# Altium footprint library PCB - INDUCTOR - RF - Murata LQW03 0201.PCBLIB: 1 footprints
Each footprint in its own frame and in the unit in brackets; x right, y up, seen from the top. Pads: shape width x height; smd on the part's side, far side on the other; paste and mask are expansions set on the pad; w line width, h text height; cw(c..) or ccw(c..) is an arc to the next point about the centre after c.
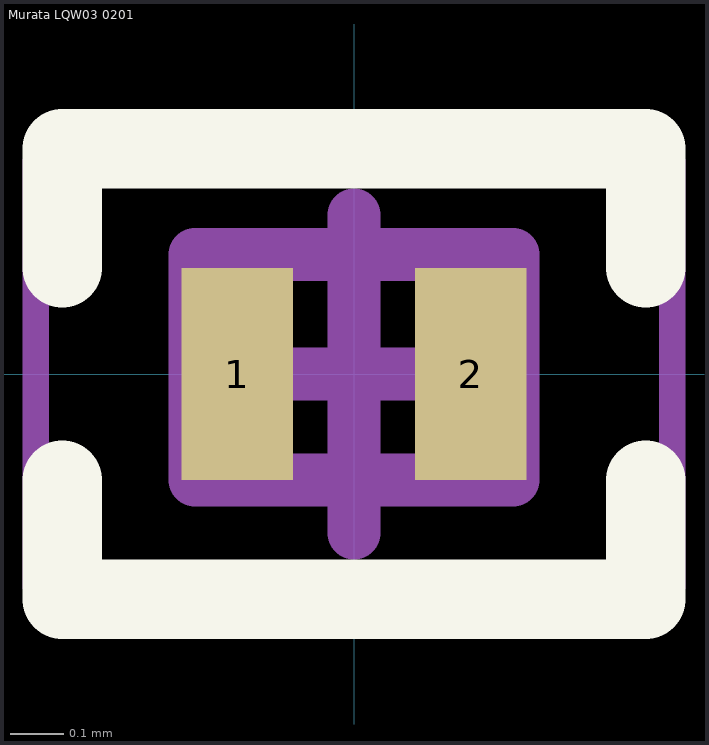
[diagram p0: the footprint, top view; thin cyan lines are the x and y axes]

## Murata LQW03 0201 [mm] "Chip Inductor, 2-Leads, Body 0.60x0.40mm"
height 0.45
pads (2):
  rect 0.21x0.4 smd: 1(-0.22,0) 2(0.22,0)
Top Overlay:
  lines w0.15: -0.55,-0.2 -0.55,-0.425 0.55,-0.425 0.55,-0.2 ; -0.55,0.2 -0.55,0.425 0.55,0.425 0.55,0.2
Mechanical 13:
  lines w0.1: -0.3,-0.2 0.3,-0.2 0.3,0.225 -0.3,0.225 -0.3,-0.2
Mechanical 15:
  lines w0.05: -0.6,-0.4 0.6,-0.4 0.6,0.4 -0.6,0.4 -0.6,-0.4
  lines w0.1: -0.3,0 0.3,0 ; 0,-0.3 0,0.3
3D body "Murata - LQW03 cap.step": height 0.45, standoff 0.25, extent -0.29,-0.225 0.29,0.225
3D body "Murata - LQW03 base.step": height 0.38, standoff 0, extent -0.275,-0.212 0.275,0.212